# EAGLE library part SDCARD (library SDCard)
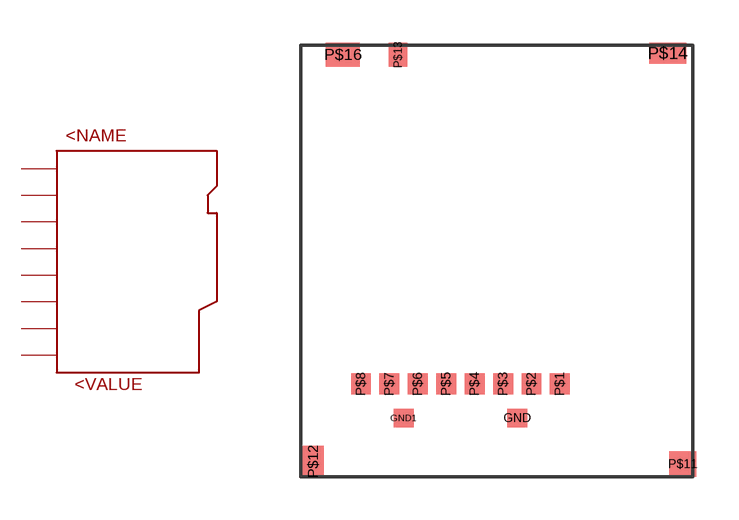
[diagram p0: symbol with the pads of SDCARD_FOOT; footprint SDCARD_FOOT]

Designator prefix -

## SDCARD  [SDCARD_FOOT]
P$1  DAT2
P$2  CD/DAT3
P$3  CMD
P$4  VDD
P$5  CLK
P$6  VSS
P$7  DAT0
P$8  DAT1

## Footprint SDCARD_FOOT (pad centres in mm)
smd 0.7 x 0.65: GND 0.725,2.075; GND1 -3.275,2.075
smd 0.7 x 0.75: P$1 2.225,3.275; P$2 1.225,3.275; P$3 0.225,3.275; P$4 -0.775,3.275; P$5 -1.775,3.275; P$6 -2.775,3.275; P$7 -3.775,3.275; P$8 -4.775,3.275
smd 0.95 x 0.9: P$11 6.55,0.45
smd 0.745 x 1.1: P$12 -6.46,0.55
smd 0.65 x 0.85: P$13 -3.475,14.875
smd 1.3 x 0.75: P$14 6.013,14.925
smd 1.2 x 0.85: P$16 -5.412,14.875